# EAGLE library part INDRAMAT-MDD-FLEX (library act-global-nolan)
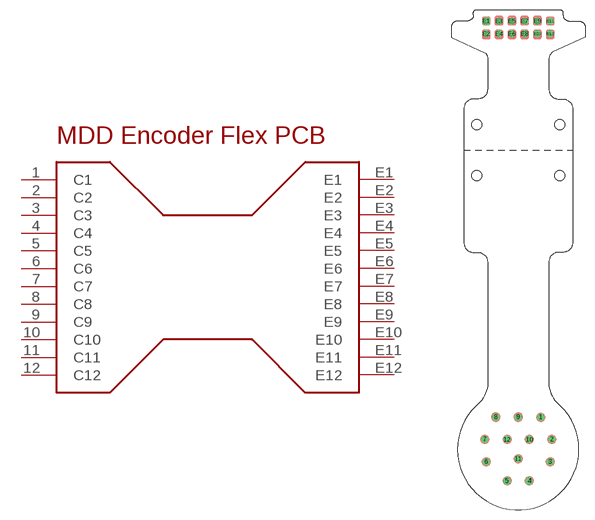
[diagram p54: symbol with the pads of INDRAMAT_MDD_12; footprint INDRAMAT_MDD_12]

Designator prefix -

## INDRAMAT-MDD-FLEX  [INDRAMAT_MDD_12]
1  C1
2  C2
3  C3
4  C4
5  C5
6  C6
7  C7
8  C8
9  C9
10  C10
11  C11
12  C12
E1  E1
E2  E2
E3  E3
E4  E4
E5  E5
E6  E6
E7  E7
E8  E8
E9  E9
E10  E10
E11  E11
E12  E12

## Footprint INDRAMAT_MDD_12 (pad centres in mm)
drill 0.6: 1 3.5,5; 2 5.25,1.5; 3 5,-2; 4 1.75,-5; 5 -1.75,-5; 6 -5,-2; 7 -5.25,1.5; 8 -3.5,5; 9 0,5; 10 1.75,1.5; 11 0,-1.5; 12 -1.75,1.5; E2 -5,65; E3 -3,67; E4 -3,65; E5 -1,67; E6 -1,65; E7 1,67; E8 1,65; E9 3,67; E10 3,65; E11 5,67; E12 5,65
drill 0.6 square: E1 -5,67
hole 1.6 at 6.5,50.8
hole 1.6 at 6.5,42.8
hole 1.6 at -6.5,50.8
hole 1.6 at -6.5,42.8